# EAGLE library part TLC5951 (library Jordi)
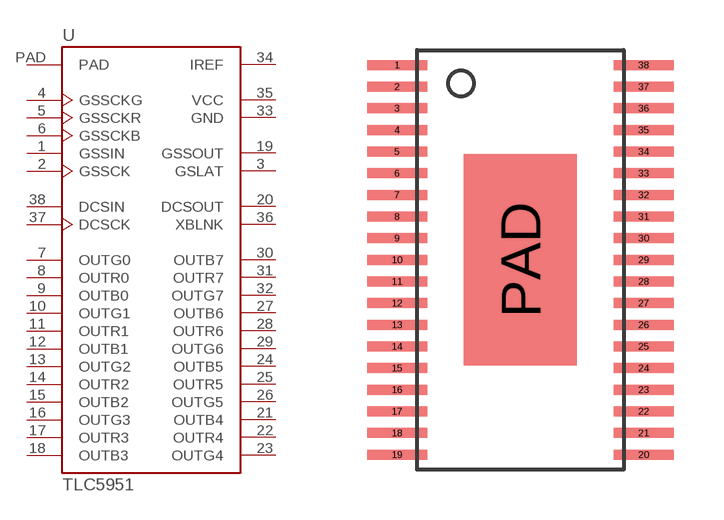
[diagram p49: symbol with the pads of HTSSOP-38; footprint HTSSOP-38]

Designator prefix -

## TLC5951DAP  [HTSSOP-38]
1  GSSIN  in
2  GSSCK  in
3  GSLAT  in
4  GSSCKG  in
5  GSSCKR  in
6  GSSCKB  in
7  OUTG0  out
8  OUTR0  out
9  OUTB0  out
10  OUTG1  out
11  OUTR1  out
12  OUTB1  out
13  OUTG2  out
14  OUTR2  out
15  OUTB2  out
16  OUTG3  out
17  OUTR3  out
18  OUTB3  out
19  GSSOUT  out
20  DCSOUT  out
21  OUTB4  out
22  OUTR4  out
23  OUTG4  out
24  OUTB5  out
25  OUTR5  out
26  OUTG5  out
27  OUTB6  out
28  OUTR6  out
29  OUTG6  out
30  OUTB7  out
31  OUTR7  out
32  OUTG7  out
33  GND  pwr
34  IREF  in
35  VCC  pwr
36  XBLNK  in
37  DCSCK  in
38  DCSIN  in
PAD  PAD  pwr

## Footprint HTSSOP-38 (pad centres in mm)
smd 1.8 x 0.3: 1 -3.7,5.85; 2 -3.7,5.2; 3 -3.7,4.55; 4 -3.7,3.9; 5 -3.7,3.25; 6 -3.7,2.6; 7 -3.7,1.95; 8 -3.7,1.3; 9 -3.7,0.65; 10 -3.7,0; 11 -3.7,-0.65; 12 -3.7,-1.3; 13 -3.7,-1.95; 14 -3.7,-2.6; 15 -3.7,-3.25; 16 -3.7,-3.9; 17 -3.7,-4.55; 18 -3.7,-5.2; 19 -3.7,-5.85; 20 3.7,-5.85; 21 3.7,-5.2; 22 3.7,-4.55; 23 3.7,-3.9; 24 3.7,-3.25; 25 3.7,-2.6; 26 3.7,-1.95; 27 3.7,-1.3; 28 3.7,-0.65; 29 3.7,0; 30 3.7,0.65; 31 3.7,1.3; 32 3.7,1.95; 33 3.7,2.6; 34 3.7,3.25; 35 3.7,3.9; 36 3.7,4.55; 37 3.7,5.2; 38 3.7,5.85
smd 3.39 x 6.35: PAD 0,0